# Altium schematic symbol library CON1X3.Schlib: 1 symbol
Pins are listed as number, name and electrical type; pins without a type are passive.

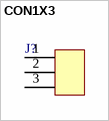
[diagram p0: symbol CON1X3]

## CON1X3
designator J?
pins: 1, 2, 3